# EAGLE library part FAN5109B (library DiscreteComponents)
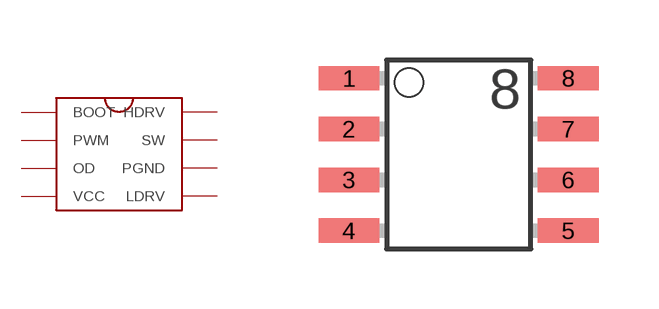
[diagram p0: symbol with the pads of SO-8; footprint SO-8]

Designator prefix -

## FAN5109B  [SO-8]
1  BOOT
2  PWM
3  OD
4  VCC
5  LDRV
6  PGND
7  SW
8  HDRV

## Footprint SO-8 (pad centres in mm)
SO 8 small outline
smd 1.524 x 0.61: 1 -2.743,1.905; 2 -2.743,0.635; 3 -2.743,-0.635; 4 -2.743,-1.905; 5 2.743,-1.905; 6 2.743,-0.635; 7 2.743,0.635; 8 2.743,1.905